# Altium footprint library SMDComponents.PcbLib: 5 footprints
Each footprint in its own frame and in the unit in brackets; x right, y up, seen from the top. Pads: shape width x height; smd on the part's side, far side on the other; paste and mask are expansions set on the pad; w line width, h text height; cw(c..) or ccw(c..) is an arc to the next point about the centre after c.
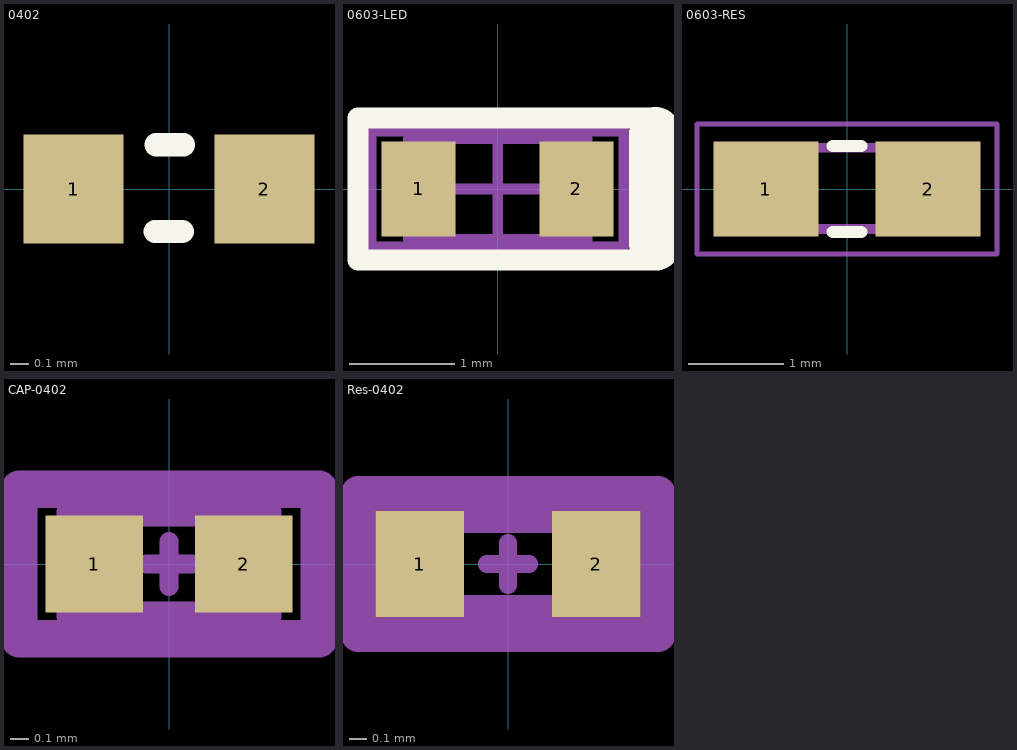
[diagram p0: the footprints below, top view; thin cyan lines are the x and y axes]

## 0402 [mm] "0402 Resistor"
pads (2):
  rect 0.55x0.6 smd: 1(-0.525,0) 2(0.525,0)
Top Overlay:
  lines w0.127: -0.077,-0.233 0.073,-0.233 ; -0.071,0.243 0.079,0.243
3D body: height 0.25, standoff 0, extent -0.655,0.294 -0.655,0.294
3D body: height 0.35, standoff 0, extent -0.508,-0.254 0.508,0.254

## 0603-LED [mm] "0603 LED footprint, thick line on the cathode"
height 0.9
pads (2):
  rect 0.7x0.9 smd: 1(-0.75,0) 2(0.75,0)
Top Overlay:
  lines w0.2: 1.524,-0.675 -1.325,-0.675 -1.325,0.675 1.524,0.675
  lines w0.5: 1.499,-0.523 1.499,0.527
Mechanical 13:
  lines w0.1: -0.85,-0.475 -0.85,0.475 0.85,0.475 0.85,-0.475 -0.85,-0.475
Mechanical 15:
  lines w0.1: -0.475,0 0.475,0 ; 0,-0.475 0,0.475 ; -1.2,-0.55 -1.2,0.55 1.2,0.55 1.2,-0.55 -1.2,-0.55
3D body "(0603) LED_DIALIGHT_598.stp": height 0.71, standoff 0, extent -0.8,-0.396 0.8,0.396

## 0603-RES [mm] "0603 SMD Resistor, based on Vishay CRCW06030000Z0EC"
pads (2):
  rect 1.1x1 smd: 1(-0.85,0) 2(0.85,0)
Top Overlay:
  lines w0.127: -0.15,-0.45 0.15,-0.45 ; -0.15,0.45 0.15,0.45
Mechanical 13:
  region: -0.838,0.48 -0.338,0.48 -0.338,-0.47 -0.838,-0.47
  region: 0.33,0.48 0.83,0.48 0.83,-0.47 0.33,-0.47
  region: -0.838,0.48 -0.338,0.48 -0.338,-0.47 -0.838,-0.47
  region: 0.33,0.48 0.83,0.48 0.83,-0.47 0.33,-0.47
  lines w0.102: -0.356,-0.419 0.356,-0.419 -0.356,-0.419 ; -0.356,0.432 0.356,0.432 -0.356,0.432
Mechanical 15:
  lines w0.051: -1.573,-0.683 1.573,-0.683 1.573,0.683 -1.573,0.683 -1.573,-0.683
3D body: height 0.25, standoff 0, extent -0.834,-0.475 0.834,0.475

## CAP-0402 [mm]
pads (2):
  rect 0.52x0.52 smd paste+0 mask+0: 1(-0.4,0) 2(0.4,0)
Mechanical 10:
  lines w0.2: -0.8,-0.4 0.8,-0.4 0.8,0.4 -0.8,0.4 -0.8,-0.4
Mechanical 12:
  lines w0.15: -0.525,-0.275 0.525,-0.275 0.525,0.275 -0.525,0.275 -0.525,-0.275
Mechanical 15:
  lines w0.1: -0.12,0 0.12,0 ; 0,-0.12 0,0.12
  lines w0.2: -0.8,-0.4 0.8,-0.4 0.8,0.4 -0.8,0.4 -0.8,-0.4
3D body "Cap_Kemet_C0402C100C5GACTU_eec.STEP": height 0.25, standoff 0, extent -0.8,-0.4 0.8,0.4

## Res-0402 [mm]
pads (2):
  rect 0.5x0.6 smd paste+0 mask+0: 1(-0.5,0) 2(0.5,0)
Mechanical 10:
  lines w0.2: -0.85,-0.4 -0.85,0.4 0.85,0.4 0.85,-0.4 -0.85,-0.4
Mechanical 12:
  lines w0.15: -0.5,-0.25 -0.5,0.25 0.5,0.25 0.5,-0.25 -0.5,-0.25
Mechanical 15:
  lines w0.1: -0.12,0 0.12,0 ; 0,-0.12 0,0.12
  lines w0.2: -0.85,-0.4 -0.85,0.4 0.85,0.4 0.85,-0.4 -0.85,-0.4
3D body "3dmodel.step": height 0.25, standoff 0, extent -0.85,-0.4 0.85,0.4